# Altium schematic symbol library U_DCDC_DOSA_SIP.Schlib: 1 symbol
Pins are listed as number, name and electrical type; pins without a type are passive.

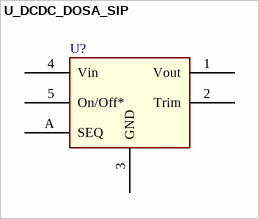
[diagram p0: symbol U_DCDC_DOSA_SIP]

## U_DCDC_DOSA_SIP
designator U?
pins: 1 Vout, 2 Trim, 3 GND, 4 Vin, 5 On/Off*, A SEQ